# Altium footprint library Components - 25.02.24 - 15.51.PcbLib: 2 footprints
Each footprint in its own frame and in the unit in brackets; x right, y up, seen from the top. Pads: shape width x height; smd on the part's side, far side on the other; paste and mask are expansions set on the pad; w line width, h text height; cw(c..) or ccw(c..) is an arc to the next point about the centre after c.
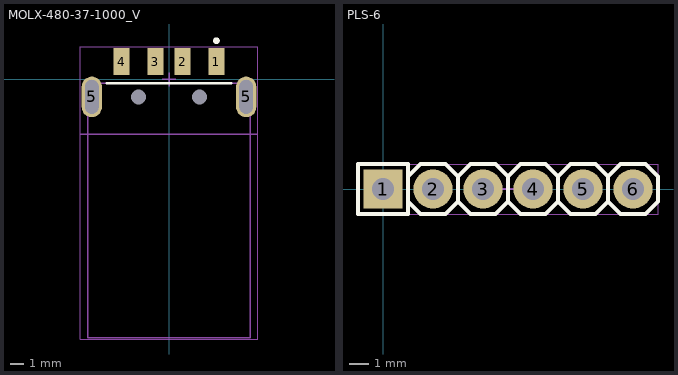
[diagram p0: the footprints below, top view; thin cyan lines are the x and y axes]

## MOLX-480-37-1000_V [mm] "CONN, 4-Leads, Body 12x18.8mm"
height 4.6
pads (8):
  rect 1.2x2 smd: 1(3.5,1.3) 2(1,1.3) 3(-1,1.3) 4(-3.5,1.3)
  oval 1.5x3 hole 1 slot 2.5 at 90 deg: 5(-5.7,-1.3) 5(5.7,-1.3)
  round 0.5 hole 1.1 unplated: MH1(-2.25,-1.3) MH2(2.25,-1.3)
Top Overlay:
  circle w0.25: c3.5,2.85 r0.125
  lines w0.2: -4.577,-0.3 4.577,-0.3
Mechanical 1:
  lines w0.1: -6.5,-4.05 6.5,-4.05
  text "PCB EDGE" at 1.27,-3.84 h0.5
Mechanical 13:
  lines w0.1: -6,-19.1 -6,-0.3 6,-0.3 6,-19.1 -6,-19.1
Mechanical 15:
  lines w0.05: -6.55,-19.182 6.55,-19.182 6.55,2.4 -6.55,2.4 -6.55,-19.182
  lines w0.1: -0.5,0 0.5,0 ; 0,-0.5 0,0.5
3D body "480371000.stp": height 3.07, standoff -2.9, extent -6.348,-19.082 6.348,2.198

## PLS-6 [mm]
pads (6):
  rect 2x2 hole 1.1: 1(0,0)
  round 2 hole 1.1: 2(2.54,0) 3(5.08,0) 4(7.62,0) 5(10.16,0) 6(12.7,0)
Top Overlay:
  lines w0.2: 1.27,-0.635 1.905,-1.27 3.175,-1.27 3.81,-0.635 ; 1.27,0.635 1.905,1.27 3.175,1.27 3.81,0.635 ; 3.81,-0.635 4.445,-1.27 5.715,-1.27 6.35,-0.635 ; 3.81,-0.635 3.81,0.635 ; 3.81,0.635 4.445,1.27 5.715,1.27 6.35,0.635 ; 6.35,-0.635 6.985,-1.27 8.255,-1.27 8.89,-0.635 ; 6.35,-0.635 6.35,0.635 ; 6.35,0.635 6.985,1.27 8.255,1.27 8.89,0.635 ; 8.89,-0.635 9.525,-1.27 10.795,-1.27 11.43,-0.635 ; 8.89,-0.635 8.89,0.635 ; 8.89,0.635 9.525,1.27 10.795,1.27 11.43,0.635 ; 11.43,-0.635 11.43,0.635 ; 11.43,-0.635 12.065,-1.27 13.335,-1.27 13.97,-0.635 13.97,0.635 13.335,1.27 12.065,1.27 11.43,0.635 ; -1.27,-1.27 1.27,-1.27 1.27,1.27 -1.27,1.27 -1.27,-1.27
Mechanical 1:
  lines w0.1: 1.27,-0.635 1.905,-1.27 3.175,-1.27 3.81,-0.635 ; 1.27,0.635 1.905,1.27 3.175,1.27 3.81,0.635 ; 3.81,-0.635 3.81,0.635 ; 3.81,-0.635 4.445,-1.27 5.715,-1.27 6.35,-0.635 ; 3.81,0.635 4.445,1.27 5.715,1.27 6.35,0.635 ; 6.35,-0.635 6.35,0.635 ; 6.35,-0.635 6.985,-1.27 8.255,-1.27 8.89,-0.635 ; 6.35,0.635 6.985,1.27 8.255,1.27 8.89,0.635 ; 8.89,-0.635 8.89,0.635 ; 8.89,-0.635 9.525,-1.27 10.795,-1.27 11.43,-0.635 ; 8.89,0.635 9.525,1.27 10.795,1.27 11.43,0.635 ; 11.43,-0.635 12.065,-1.27 13.335,-1.27 13.97,-0.635 13.97,0.635 13.335,1.27 12.065,1.27 11.43,0.635 ; 11.43,-0.635 11.43,0.635 ; -1.27,-1.27 -1.27,1.27 1.27,1.27 1.27,-1.27 -1.27,-1.27
Mechanical 15:
  lines w0.05: -1.27,-1.27 -1.27,1.27 13.97,1.27 13.97,-1.27 -1.27,-1.27
  lines w0.1: 5.85,0 6.85,0 ; 6.35,-0.5 6.35,0.5